# Altium schematic symbol library TexasInstruments.SchLib: 7 symbols
Pins are listed as number, name and electrical type; pins without a type are passive.

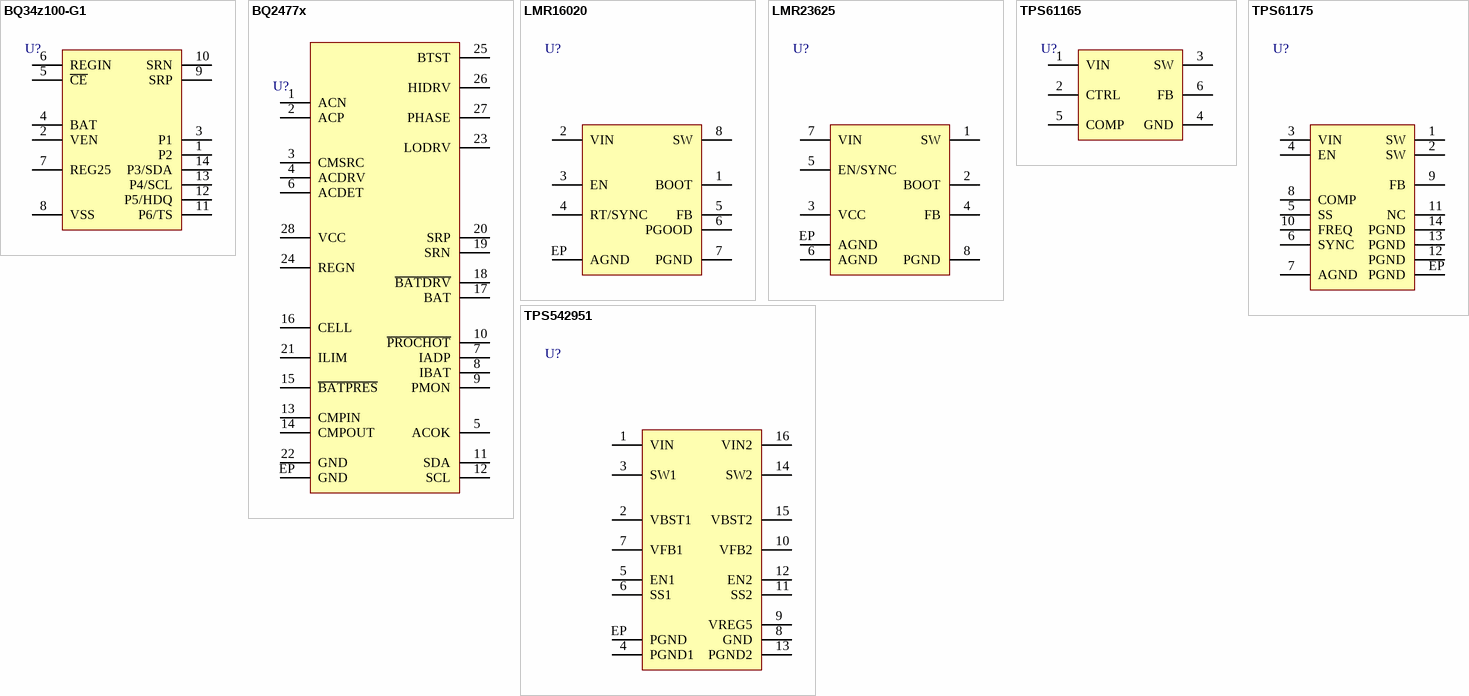
[diagram p0: symbols BQ34z100-G1 to TPS542951]

## BQ34z100-G1
designator U?  (value not drawn)
=description
pins: 1 P2, 2 VEN, 3 P1, 4 BAT, 5 ~{CE}, 6 REGIN (power), 7 REG25 (power), 8 VSS (power), 9 SRP, 10 SRN, 11 P6/TS, 12 P5/HDQ, 13 P4/SCL, 14 P3/SDA

## BQ2477x
designator U?  (value not drawn)
=description
pins: 1 ACN, 2 ACP, 3 CMSRC, 4 ACDRV, 5 ACOK, 6 ACDET, 7 IADP, 8 IBAT, 9 PMON, 10 ~{PROCHOT}, 11 SDA, 12 SCL, 13 CMPIN, 14 CMPOUT, 15 ~{BATPRES}, 16 CELL, 17 BAT, 18 ~{BATDRV}, 19 SRN, 20 SRP, 21 ILIM, 22 GND, 23 LODRV, 24 REGN, 25 BTST, 26 HIDRV, 27 PHASE, 28 VCC, EP GND

## LMR16020
designator U?  (value not drawn)
=description
pins: 1 BOOT, 2 VIN (power), 3 EN, 4 RT/SYNC, 5 FB, 6 PGOOD, 7 PGND (power), 8 SW, EP AGND (power)

## LMR23625
designator U?  (value not drawn)
=description
pins: 1 SW, 2 BOOT, 3 VCC (power), 4 FB, 5 EN/SYNC, 6 AGND (power), 7 VIN (power), 8 PGND (power), EP AGND (power)

## TPS61165
designator U?  (value not drawn)
=description
pins: 1 VIN (power), 2 CTRL, 3 SW (power), 4 GND (power), 5 COMP, 6 FB

## TPS61175
designator U?  (value not drawn)
=description
pins: 1 SW, 2 SW, 3 VIN (power), 4 EN, 5 SS, 6 SYNC, 7 AGND (power), 8 COMP, 9 FB, 10 FREQ, 11 NC, 12 PGND (power), 13 PGND (power), 14 PGND (power), EP PGND (power)

## TPS542951
designator U?  (value not drawn)
=description
pins: 1 VIN (power), 2 VBST1, 3 SW1, 4 PGND1, 5 EN1, 6 SS1, 7 VFB1, 8 GND, 9 VREG5, 10 VFB2, 11 SS2, 12 EN2, 13 PGND2, 14 SW2, 15 VBST2, 16 VIN2, EP PGND